# Altium footprint library SMD Active.PcbLib: 72 footprints (part 5 of 8)
Each footprint in its own frame and in the unit in brackets; x right, y up, seen from the top. Pads: shape width x height; smd on the part's side, far side on the other; paste and mask are expansions set on the pad; w line width, h text height; cw(c..) or ccw(c..) is an arc to the next point about the centre after c.
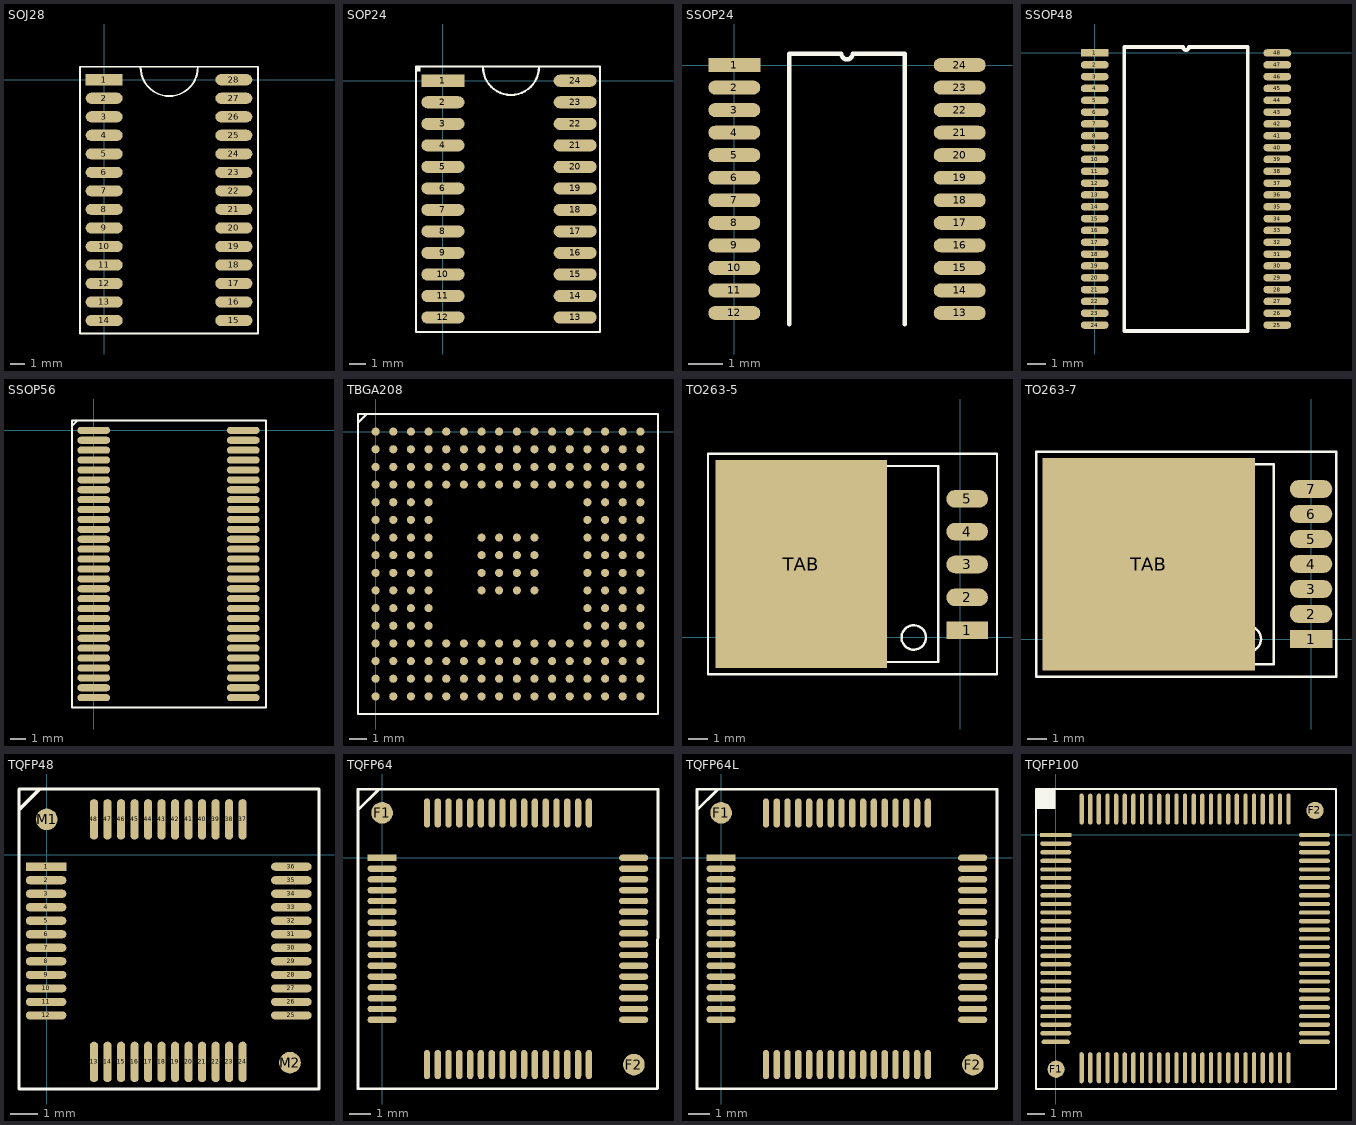
[diagram p4: the footprints below, top view; thin cyan lines are the x and y axes]

## SOJ28 [mil]
pads (28):
  rect 100x30 smd: 1(0,0)
  oval 100x30 smd: 2(0,-50) 3(0,-100) 4(0,-150) 5(0,-200) 6(0,-250) 7(0,-300) 8(0,-350) 9(0,-400) 10(0,-450) 11(0,-500) 12(0,-550) 13(0,-600) 14(0,-650) 15(350,-650) 16(350,-600) 17(350,-550) 18(350,-500) 19(350,-450) 20(350,-400) 21(350,-350) 22(350,-300) 23(350,-250) 24(350,-200) 25(350,-150) 26(350,-100) 27(350,-50) 28(350,0)
Top Overlay:
  lines w5: 98.48,33 ccw(c175.5,33) 252.51,33 ; 160,35 415,35 415,-685 -65,-685 -65,35 162.5,35

## SOP24 [mil]
pads (24):
  rect 100x28 smd: 1(0,0)
  oval 100x28 smd: 2(0,-50) 3(0,-100) 4(0,-150) 5(0,-200) 6(0,-250) 7(0,-300) 8(0,-350) 9(0,-400) 10(0,-450) 11(0,-500) 12(0,-550) 13(307,-550) 14(307,-500) 15(307,-450) 16(307,-400) 17(307,-350) 18(307,-300) 19(307,-250) 20(307,-200) 21(307,-150) 22(307,-100) 23(307,-50) 24(307,0)
Top Overlay:
  rectangle: -63,21 -52,33
  lines w5: -63,-20 -63,-4 ; 93,32 ccw(c158,32) 223,32 ; 364,-584 -63,-584 -63,33 365,33 ; 365.19,-584 365.19,33

## SSOP24 [mm]
pads (24):
  rect 1.5x0.4 smd: 1(0,0)
  oval 1.5x0.4 smd: 2(0,-0.65) 3(0,-1.3) 4(0,-1.95) 5(0,-2.6) 6(0,-3.25) 7(0,-3.9) 8(0,-4.55) 9(0,-5.2) 10(0,-5.85) 11(0,-6.5) 12(0,-7.15) 13(6.5,-7.15) 14(6.5,-6.5) 15(6.5,-5.85) 16(6.5,-5.2) 17(6.5,-4.55) 18(6.5,-3.9) 19(6.5,-3.25) 20(6.5,-2.6) 21(6.5,-1.95) 22(6.5,-1.3) 23(6.5,-0.65) 24(6.5,0)
Top Overlay:
  lines w0.127: 1.585,-7.475 1.585,0.325 3.087,0.325 ccw(c3.25,0.325) 3.412,0.325 4.915,0.325 4.915,-7.475
3D body: height 1.52, standoff 0.25, extent 1.067,-7.544 5.385,0.356
3D body: height 0.51, standoff 0, extent -0.076,-0.191 0.61,0.191
3D body: height 0.89, standoff 0.38, extent 0.267,-0.191 1.092,0.191
3D body: height 0.89, standoff 0.38, extent 0.267,-1.486 1.092,-1.105
3D body: height 0.51, standoff 0, extent -0.076,-1.486 0.61,-1.105
3D body: height 0.89, standoff 0.38, extent 5.359,-1.46 6.185,-1.079
3D body: height 0.51, standoff 0, extent 5.842,-1.46 6.528,-1.079
3D body: height 0.89, standoff 0.38, extent 5.359,-0.165 6.185,0.216
3D body: height 0.51, standoff 0, extent 5.842,-0.165 6.528,0.216
3D body: height 1.55, standoff 1.52, extent 1.346,-0.405 1.852,0.102
3D body: height 1.55, standoff 1.52, extent 2.159,-0.864 4.293,0
3D body: height 0.51, standoff 0, extent 5.842,-2.781 6.528,-2.4
3D body: height 0.89, standoff 0.38, extent 5.359,-2.781 6.185,-2.4
3D body: height 0.51, standoff 0, extent -0.076,-2.807 0.61,-2.426
3D body: height 0.89, standoff 0.38, extent 0.267,-2.807 1.092,-2.426
3D body: height 0.51, standoff 0, extent 5.842,-4.051 6.528,-3.67
3D body: height 0.89, standoff 0.38, extent 5.359,-4.051 6.185,-3.67
3D body: height 0.51, standoff 0, extent -0.076,-4.077 0.61,-3.696
3D body: height 0.89, standoff 0.38, extent 0.267,-4.077 1.092,-3.696
3D body: height 0.51, standoff 0, extent 5.842,-5.372 6.528,-4.991
3D body: height 0.89, standoff 0.38, extent 5.359,-5.372 6.185,-4.991
3D body: height 0.51, standoff 0, extent -0.076,-5.397 0.61,-5.016
3D body: height 0.89, standoff 0.38, extent 0.267,-5.397 1.092,-5.016
3D body: height 0.51, standoff 0, extent 5.842,-6.667 6.528,-6.286
3D body: height 0.89, standoff 0.38, extent 5.359,-6.667 6.185,-6.286
3D body: height 0.51, standoff 0, extent -0.076,-6.693 0.61,-6.312
3D body: height 0.89, standoff 0.38, extent 0.267,-6.693 1.092,-6.312
3D body: height 0.51, standoff 0, extent 5.842,-7.302 6.528,-6.921
3D body: height 0.89, standoff 0.38, extent 5.359,-7.302 6.185,-6.921
3D body: height 0.51, standoff 0, extent -0.076,-7.328 0.61,-6.947
3D body: height 0.89, standoff 0.38, extent 0.267,-7.328 1.092,-6.947
3D body: height 0.51, standoff 0, extent 5.842,-6.007 6.528,-5.626
3D body: height 0.89, standoff 0.38, extent 5.359,-6.007 6.185,-5.626
3D body: height 0.51, standoff 0, extent -0.076,-6.032 0.61,-5.651
3D body: height 0.89, standoff 0.38, extent 0.267,-6.032 1.092,-5.651
3D body: height 0.51, standoff 0, extent 5.867,-4.712 6.553,-4.331
3D body: height 0.89, standoff 0.38, extent 5.385,-4.712 6.21,-4.331
3D body: height 0.51, standoff 0, extent -0.051,-4.737 0.635,-4.356
3D body: height 0.89, standoff 0.38, extent 0.292,-4.737 1.118,-4.356
3D body: height 0.51, standoff 0, extent 5.867,-3.416 6.553,-3.035
3D body: height 0.89, standoff 0.38, extent 5.385,-3.416 6.21,-3.035
3D body: height 0.51, standoff 0, extent -0.051,-3.442 0.635,-3.061
3D body: height 0.89, standoff 0.38, extent 0.292,-3.442 1.118,-3.061
3D body: height 0.51, standoff 0, extent 5.817,-2.121 6.502,-1.74
3D body: height 0.89, standoff 0.38, extent 5.334,-2.121 6.159,-1.74
3D body: height 0.51, standoff 0, extent -0.102,-2.146 0.584,-1.765
3D body: height 0.89, standoff 0.38, extent 0.241,-2.146 1.067,-1.765
3D body: height 0.51, standoff 0, extent 5.817,-0.851 6.502,-0.47
3D body: height 0.89, standoff 0.38, extent 5.334,-0.851 6.159,-0.47
3D body: height 0.51, standoff 0, extent -0.102,-0.876 0.584,-0.495
3D body: height 0.89, standoff 0.38, extent 0.241,-0.876 1.067,-0.495

## SSOP48 [mm]
pads (48):
  rect 1.5x0.4 smd: 1(0,0)
  oval 1.5x0.4 smd: 2(0,-0.635) 3(0,-1.27) 4(0,-1.905) 5(0,-2.54) 6(0,-3.175) 7(0,-3.81) 8(0,-4.445) 9(0,-5.08) 10(0,-5.715) 11(0,-6.35) 12(0,-6.985) 13(0,-7.62) 14(0,-8.255) 15(0,-8.89) 16(0,-9.525) 17(0,-10.16) 18(0,-10.795) 19(0,-11.43) 20(0,-12.065) 21(0,-12.7) 22(0,-13.335) 23(0,-13.97) 24(0,-14.605) 25(9.8,-14.605) 26(9.8,-13.97) 27(9.8,-13.335) 28(9.8,-12.7) 29(9.8,-12.065) 30(9.8,-11.43) 31(9.8,-10.795) 32(9.8,-10.16) 33(9.8,-9.525) 34(9.8,-8.89) 35(9.8,-8.255) 36(9.8,-7.62) 37(9.8,-6.985) 38(9.8,-6.35) 39(9.8,-5.715) 40(9.8,-5.08) 41(9.8,-4.445) 42(9.8,-3.81) 43(9.8,-3.175) 44(9.8,-2.54) 45(9.8,-1.905) 46(9.8,-1.27) 47(9.8,-0.635) 48(9.8,0)
Top Overlay:
  lines w0.2: 1.585,-14.922 8.215,-14.922 8.215,0.318 5.059,0.318 cw(c4.9,0.318) 4.741,0.318 1.585,0.318 1.585,-14.922

## SSOP56 [mil]
pads (56):
  oval 82.5x18 smd: 1(0,0) 2(0,-25) 3(0,-50) 4(0,-75) 5(0,-100) 6(0,-125) 7(0,-150) 8(0,-175) 9(0,-200) 10(0,-225) 11(0,-250) 12(0,-275) 13(0,-300) 14(0,-325) 15(0,-350) 16(0,-375) 17(0,-400) 18(0,-425) 19(0,-450) 20(0,-475) 21(0,-500) 22(0,-525) 23(0,-550) 24(0,-575) 25(0,-600) 26(0,-625) 27(0,-650) 28(0,-675) 29(377.4,-675) 30(377.4,-650) 31(377.4,-625) 32(377.4,-600) 33(377.4,-575) 34(377.4,-550) 35(377.4,-525) 36(377.4,-500) 37(377.4,-475) 38(377.4,-450) 39(377.4,-425) 40(377.4,-400) 41(377.4,-375) 42(377.4,-350) 43(377.4,-325) 44(377.4,-300) 45(377.4,-275) 46(377.4,-250) 47(377.4,-225) 48(377.4,-200) 49(377.4,-175) 50(377.4,-150) 51(377.4,-125) 52(377.4,-100) 53(377.4,-75) 54(377.4,-50) 55(377.4,-25) 56(377.4,0)
Top Overlay:
  lines w5: -55,10 -40,25 -55,25 ; -55,25 -55,-700 435,-700 435,25 -55,25

## TBGA208 [mm]
pads (208):
  round 0.46 smd: A1(0,0) A2(1,0) A3(2,0) A4(3,0) A5(4,0) A6(5,0) A7(6,0) A8(7,0) A9(8,0) A10(9,0) A11(10,0) A12(11,0) A13(12,0) A14(13,0) A15(14,0) A16(15,0) B1(0,-1) B2(1,-1) B3(2,-1) B4(3,-1) B5(4,-1) B6(5,-1) B7(6,-1) B8(7,-1) B9(8,-1) B10(9,-1) B11(10,-1) B12(11,-1) B13(12,-1) B14(13,-1) B15(14,-1) B16(15,-1) C1(0,-2) C2(1,-2) C3(2,-2) C4(3,-2) C5(4,-2) C6(5,-2) C7(6,-2) C8(7,-2) C9(8,-2) C10(9,-2) C11(10,-2) C12(11,-2) C13(12,-2) C14(13,-2) C15(14,-2) C16(15,-2) D1(0,-3) D2(1,-3) D3(2,-3) D4(3,-3) D5(4,-3) D6(5,-3) D7(6,-3) D8(7,-3) D9(8,-3) D10(9,-3) D11(10,-3) D12(11,-3) D13(12,-3) D14(13,-3) D15(14,-3) D16(15,-3) E1(0,-4) E2(1,-4) E3(2,-4) E4(3,-4) E13(12,-4) E14(13,-4) E15(14,-4) E16(15,-4) F1(0,-5) F2(1,-5) F3(2,-5) F4(3,-5) F13(12,-5) F14(13,-5) F15(14,-5) F16(15,-5) G1(0,-6) G2(1,-6) G3(2,-6) G4(3,-6) G7(6,-6) G8(7,-6) G9(8,-6) G10(9,-6) G13(12,-6) G14(13,-6) G15(14,-6) G16(15,-6) H1(0,-7) H2(1,-7) H3(2,-7) H4(3,-7) H7(6,-7) H8(7,-7) H9(8,-7) H10(9,-7) H13(12,-7) H14(13,-7) H15(14,-7) H16(15,-7) J1(0,-8) J2(1,-8) J3(2,-8) J4(3,-8) J7(6,-8) J8(7,-8) J9(8,-8) J10(9,-8) J13(12,-8) J14(13,-8) J15(14,-8) J16(15,-8) K1(0,-9) K2(1,-9) K3(2,-9) K4(3,-9) K7(6,-9) K8(7,-9) K9(8,-9) K10(9,-9) K13(12,-9) K14(13,-9) K15(14,-9) K16(15,-9) L1(0,-10) L2(1,-10) L3(2,-10) L4(3,-10) L13(12,-10) L14(13,-10) L15(14,-10) L16(15,-10) M1(0,-11) M2(1,-11) M3(2,-11) M4(3,-11) M13(12,-11) M14(13,-11) M15(14,-11) M16(15,-11) N1(0,-12) N2(1,-12) N3(2,-12) N4(3,-12) N5(4,-12) N6(5,-12) N7(6,-12) N8(7,-12) N9(8,-12) N10(9,-12) N11(10,-12) N12(11,-12) N13(12,-12) N14(13,-12) N15(14,-12) N16(15,-12) P1(0,-13) P2(1,-13) P3(2,-13) P4(3,-13) P5(4,-13) P6(5,-13) P7(6,-13) P8(7,-13) P9(8,-13) P10(9,-13) P11(10,-13) P12(11,-13) P13(12,-13) P14(13,-13) P15(14,-13) P16(15,-13) R1(0,-14) R2(1,-14) R3(2,-14) R4(3,-14) R5(4,-14) R6(5,-14) R7(6,-14) R8(7,-14) R9(8,-14) R10(9,-14) R11(10,-14) R12(11,-14) R13(12,-14) R14(13,-14) R15(14,-14) R16(15,-14) T1(0,-15) T2(1,-15) T3(2,-15) T4(3,-15) T5(4,-15) T6(5,-15) T7(6,-15) T8(7,-15) T9(8,-15) T10(9,-15) T11(10,-15) T12(11,-15) T13(12,-15) T14(13,-15) T15(14,-15) T16(15,-15)
Top Overlay:
  lines w0.127: -1,0.5 -1,1 -0.5,1 ; -1,0.5 -0.5,1 ; -1,0.5 -1,-16 16,-16 16,1 -0.5,1

## TO263-5 [mil]
pads (6):
  rect 85x36 smd: 1(14,15)
  oval 85x36 smd: 2(14,82) 3(14,149) 4(14,216) 5(14,283)
  rect 350x425 smd: TAB(-325,150)
Top Overlay:
  circle w5: c-95,0 r25
  lines w4: -45,-50 -451.54,-50 -470,10 -470,285 -445,350 -420,350 -45,350
  lines w5: -420,-50 -420,350 ; -395,-50 -395,350 ; -45,-50 -45,350 ; -515,-75 75,-75 75,375 -515,375 -515,-75
3D body: height 120, standoff 50, extent -393,-50 -82,350
3D body: height 101, standoff 0, extent -287,-49 -200,-17
3D body: height 100, standoff 0, extent -393,-50 -82,350
3D body: height 50, standoff 0, extent -472,-52 -393,350
3D body: height 60, standoff 40, extent -85,270 -5,295
3D body: height 60, standoff 0, extent -17,270 -5,295
3D body: height 20, standoff 0, extent -17,270 31,295
3D body: height 20, standoff 0, extent -17,205 31,230
3D body: height 60, standoff 0, extent -17,205 -5,230
3D body: height 60, standoff 40, extent -85,205 -5,230
3D body: height 20, standoff 0, extent -17,135 31,160
3D body: height 60, standoff 0, extent -17,135 -5,160
3D body: height 60, standoff 40, extent -85,135 -5,160
3D body: height 20, standoff 0, extent -17,70 31,95
3D body: height 60, standoff 0, extent -17,70 -5,95
3D body: height 60, standoff 40, extent -85,70 -5,95
3D body: height 20, standoff 0, extent -17,5 31,30
3D body: height 60, standoff 0, extent -17,5 -5,30
3D body: height 60, standoff 40, extent -85,5 -5,30

## TO263-7 [mil]
pads (8):
  rect 85x36 smd: 1(0,0)
  oval 85x36 smd: 2(0,50) 3(0,100) 4(0,150) 5(0,200) 6(0,250) 7(0,300)
  rect 425x425 smd: TAB(-325,150)
Top Overlay:
  circle w5: c-125,0 r25
  lines w5: -450,-50 -450,350 ; -425,-50 -425,350 ; -550,-75 -550,375 50,375 50,-75 -550,-75 ; -525,-25 -525,325 -500,350 -75,350 -75,-50 -500,-50 -525,-25
3D body: height 50, standoff 0, extent -502,-57 -423,345
3D body: height 100, standoff 0, extent -423,-55 -112,345
3D body: height 101, standoff 0, extent -317,-54 -230,-22
3D body: height 120, standoff 50, extent -423,-55 -112,345

## TQFP48 [mm]
pads (50):
  rect 1.5x0.3 smd: 1(-0.025,-0.45)
  oval 1.5x0.3 smd: 2(-0.025,-0.95) 3(-0.025,-1.45) 4(-0.025,-1.95) 5(-0.025,-2.45) 6(-0.025,-2.95) 7(-0.025,-3.45) 8(-0.025,-3.95) 9(-0.025,-4.45) 10(-0.025,-4.95) 11(-0.025,-5.45) 12(-0.025,-5.95) 25(9.05,-5.95) 26(9.05,-5.45) 27(9.05,-4.95) 28(9.05,-4.45) 29(9.05,-3.95) 30(9.05,-3.45) 31(9.05,-2.95) 32(9.05,-2.45) 33(9.05,-1.95) 34(9.05,-1.45) 35(9.05,-0.95) 36(9.05,-0.45)
  oval 0.3x1.5 smd: 13(1.75,-7.675) 14(2.25,-7.675) 15(2.75,-7.675) 16(3.25,-7.675) 17(3.75,-7.675) 18(4.25,-7.675) 19(4.75,-7.675) 20(5.25,-7.675) 21(5.75,-7.675) 22(6.25,-7.675) 23(6.75,-7.675) 24(7.25,-7.675) 37(7.25,1.3) 38(6.75,1.3) 39(6.25,1.3) 40(5.75,1.3) 41(5.25,1.3) 42(4.75,1.3) 43(4.25,1.3) 44(3.75,1.3) 45(3.25,1.3) 46(2.75,1.3) 47(2.25,1.3) 48(1.75,1.3)
  round 0.8 smd: M1(0,1.3) M2(9,-7.7)
Top Overlay:
  lines w0.127: -1.025,1.525 -1.025,1.65 -0.25,2.425 ; -1.025,-8.675 10.075,-8.675 10.075,2.325 10.075,2.425 -1.025,2.425 -1.025,-8.675
3D body: height 0.76, standoff 0.38, extent 0.089,-6.071 0.914,-5.829
3D body: height 0.51, standoff 0, extent -0.254,-6.071 0.432,-5.829
3D body: height 0.97, standoff 0.13, extent 0.902,-6.744 8.141,0.419
3D body: height 0.51, standoff 0, extent -0.254,-5.556 0.432,-5.315
3D body: height 0.76, standoff 0.38, extent 0.089,-5.556 0.914,-5.315
3D body: height 0.51, standoff 0, extent -0.254,-5.074 0.432,-4.832
3D body: height 0.76, standoff 0.38, extent 0.089,-5.074 0.914,-4.832
3D body: height 0.51, standoff 0, extent -0.254,-4.566 0.432,-4.324
3D body: height 0.76, standoff 0.38, extent 0.089,-4.566 0.914,-4.324
3D body: height 0.51, standoff 0, extent -0.254,-4.083 0.432,-3.842
3D body: height 0.76, standoff 0.38, extent 0.089,-4.083 0.914,-3.842
3D body: height 0.51, standoff 0, extent -0.254,-3.575 0.432,-3.334
3D body: height 0.76, standoff 0.38, extent 0.089,-3.575 0.914,-3.334
3D body: height 0.51, standoff 0, extent -0.254,-3.067 0.432,-2.826
3D body: height 0.76, standoff 0.38, extent 0.089,-3.067 0.914,-2.826
3D body: height 0.51, standoff 0, extent -0.254,-2.584 0.432,-2.343
3D body: height 0.76, standoff 0.38, extent 0.089,-2.584 0.914,-2.343
3D body: height 0.51, standoff 0, extent -0.254,-2.076 0.432,-1.835
3D body: height 0.76, standoff 0.38, extent 0.089,-2.076 0.914,-1.835
3D body: height 0.51, standoff 0, extent -0.254,-1.568 0.432,-1.327
3D body: height 0.76, standoff 0.38, extent 0.089,-1.568 0.914,-1.327
3D body: height 0.51, standoff 0, extent -0.254,-1.086 0.432,-0.845
3D body: height 0.76, standoff 0.38, extent 0.089,-1.086 0.914,-0.845
3D body: height 0.51, standoff 0, extent -0.254,-0.578 0.432,-0.337
3D body: height 0.76, standoff 0.38, extent 0.089,-0.578 0.914,-0.337
3D body: height 0.76, standoff 0.38, extent 1.632,-7.556 1.873,-6.731
3D body: height 0.51, standoff 0, extent 1.632,-7.899 1.873,-7.214
3D body: height 0.76, standoff 0.38, extent 2.14,-7.556 2.381,-6.731
3D body: height 0.51, standoff 0, extent 2.14,-7.899 2.381,-7.214
3D body: height 0.76, standoff 0.38, extent 2.623,-7.556 2.864,-6.731
3D body: height 0.51, standoff 0, extent 2.623,-7.899 2.864,-7.214
3D body: height 0.76, standoff 0.38, extent 3.131,-7.556 3.372,-6.731
3D body: height 0.51, standoff 0, extent 3.131,-7.899 3.372,-7.214
3D body: height 0.76, standoff 0.38, extent 3.639,-7.556 3.88,-6.731
3D body: height 0.51, standoff 0, extent 3.639,-7.899 3.88,-7.214
3D body: height 0.76, standoff 0.38, extent 4.121,-7.556 4.362,-6.731
3D body: height 0.51, standoff 0, extent 4.121,-7.899 4.362,-7.214
3D body: height 0.76, standoff 0.38, extent 4.629,-7.556 4.87,-6.731
3D body: height 0.51, standoff 0, extent 4.629,-7.899 4.87,-7.214
3D body: height 0.76, standoff 0.38, extent 5.137,-7.556 5.378,-6.731
3D body: height 0.51, standoff 0, extent 5.137,-7.899 5.378,-7.214
3D body: height 0.76, standoff 0.38, extent 5.62,-7.556 5.861,-6.731
3D body: height 0.51, standoff 0, extent 5.62,-7.899 5.861,-7.214
3D body: height 0.76, standoff 0.38, extent 6.128,-7.556 6.369,-6.731
3D body: height 0.51, standoff 0, extent 6.128,-7.899 6.369,-7.214
3D body: height 0.76, standoff 0.38, extent 6.61,-7.556 6.852,-6.731
3D body: height 0.51, standoff 0, extent 6.61,-7.899 6.852,-7.214
3D body: height 0.51, standoff 0, extent 7.125,-7.899 7.366,-7.214
3D body: height 0.76, standoff 0.38, extent 7.125,-7.556 7.366,-6.731
3D body: height 0.76, standoff 0.38, extent 8.103,-6.064 8.928,-5.823
3D body: height 0.51, standoff 0, extent 8.585,-6.064 9.271,-5.823
3D body: height 0.76, standoff 0.38, extent 8.103,-5.556 8.928,-5.315
3D body: height 0.51, standoff 0, extent 8.585,-5.556 9.271,-5.315
3D body: height 0.76, standoff 0.38, extent 8.103,-5.074 8.928,-4.832
3D body: height 0.51, standoff 0, extent 8.585,-5.074 9.271,-4.832
3D body: height 0.76, standoff 0.38, extent 8.103,-4.566 8.928,-4.324
3D body: height 0.51, standoff 0, extent 8.585,-4.566 9.271,-4.324
3D body: height 0.76, standoff 0.38, extent 8.103,-4.058 8.928,-3.816
3D body: height 0.51, standoff 0, extent 8.585,-4.058 9.271,-3.816
3D body: height 0.76, standoff 0.38, extent 8.103,-3.575 8.928,-3.334
3D body: height 0.51, standoff 0, extent 8.585,-3.575 9.271,-3.334
3D body: height 0.76, standoff 0.38, extent 8.103,-3.067 8.928,-2.826
3D body: height 0.51, standoff 0, extent 8.585,-3.067 9.271,-2.826
3D body: height 0.76, standoff 0.38, extent 8.103,-2.559 8.928,-2.318
3D body: height 0.51, standoff 0, extent 8.585,-2.559 9.271,-2.318
3D body: height 0.76, standoff 0.38, extent 8.103,-2.076 8.928,-1.835
3D body: height 0.51, standoff 0, extent 8.585,-2.076 9.271,-1.835
3D body: height 0.76, standoff 0.38, extent 8.103,-1.568 8.928,-1.327
3D body: height 0.51, standoff 0, extent 8.585,-1.568 9.271,-1.327
3D body: height 0.76, standoff 0.38, extent 8.103,-1.086 8.928,-0.845
3D body: height 0.51, standoff 0, extent 8.585,-1.086 9.271,-0.845
3D body: height 0.51, standoff 0, extent 8.585,-0.572 9.271,-0.33
3D body: height 0.76, standoff 0.38, extent 8.103,-0.572 8.928,-0.33
3D body: height 0.76, standoff 0.38, extent 7.118,0.381 7.36,1.206
3D body: height 0.51, standoff 0, extent 7.118,0.864 7.36,1.549
3D body: height 0.76, standoff 0.38, extent 6.61,0.381 6.852,1.206
3D body: height 0.51, standoff 0, extent 6.61,0.864 6.852,1.549
3D body: height 0.76, standoff 0.38, extent 6.128,0.381 6.369,1.206
3D body: height 0.51, standoff 0, extent 6.128,0.864 6.369,1.549
3D body: height 0.76, standoff 0.38, extent 5.62,0.381 5.861,1.206
3D body: height 0.51, standoff 0, extent 5.62,0.864 5.861,1.549
3D body: height 0.76, standoff 0.38, extent 5.112,0.381 5.353,1.206
3D body: height 0.51, standoff 0, extent 5.112,0.864 5.353,1.549
3D body: height 0.76, standoff 0.38, extent 4.629,0.381 4.87,1.206
3D body: height 0.51, standoff 0, extent 4.629,0.864 4.87,1.549
3D body: height 0.76, standoff 0.38, extent 4.121,0.381 4.362,1.206
3D body: height 0.51, standoff 0, extent 4.121,0.864 4.362,1.549
3D body: height 0.76, standoff 0.38, extent 3.613,0.381 3.854,1.206
3D body: height 0.51, standoff 0, extent 3.613,0.864 3.854,1.549
3D body: height 0.76, standoff 0.38, extent 3.131,0.381 3.372,1.206
3D body: height 0.51, standoff 0, extent 3.131,0.864 3.372,1.549
3D body: height 0.76, standoff 0.38, extent 2.623,0.381 2.864,1.206
3D body: height 0.51, standoff 0, extent 2.623,0.864 2.864,1.549
3D body: height 0.76, standoff 0.38, extent 2.14,0.381 2.381,1.206
3D body: height 0.51, standoff 0, extent 2.14,0.864 2.381,1.549
3D body: height 0.51, standoff 0, extent 1.626,0.864 1.867,1.549
3D body: height 0.76, standoff 0.38, extent 1.626,0.381 1.867,1.206
3D body: height 0.99, standoff 0.25, extent 1.295,-0.483 1.801,0.024

## TQFP64 [mm]
pads (66):
  rect 1.35x0.295 smd: 1(0,0)
  oval 1.35x0.295 smd: 2(0,-0.5) 3(0,-1) 4(0,-1.5) 5(0,-2) 6(0,-2.5) 7(0,-3) 8(0,-3.5) 9(0,-4) 10(0,-4.5) 11(0,-5) 12(0,-5.5) 13(0,-6) 14(0,-6.5) 15(0,-7) 16(0,-7.5) 33(11.65,-7.5) 34(11.65,-7) 35(11.65,-6.5) 36(11.65,-6) 37(11.65,-5.5) 38(11.65,-5) 39(11.65,-4.5) 40(11.65,-4) 41(11.65,-3.5) 42(11.65,-3) 43(11.65,-2.5) 44(11.65,-2) 45(11.65,-1.5) 46(11.65,-1) 47(11.65,-0.5) 48(11.65,0)
  oval 0.295x1.35 smd: 17(2.075,-9.575) 18(2.575,-9.575) 19(3.075,-9.575) 20(3.575,-9.575) 21(4.075,-9.575) 22(4.575,-9.575) 23(5.075,-9.575) 24(5.575,-9.575) 25(6.075,-9.575) 26(6.575,-9.575) 27(7.075,-9.575) 28(7.575,-9.575) 29(8.075,-9.575) 30(8.575,-9.575) 31(9.075,-9.575) 32(9.575,-9.575) 49(9.575,2.075) 50(9.075,2.075) 51(8.575,2.075) 52(8.075,2.075) 53(7.575,2.075) 54(7.075,2.075) 55(6.575,2.075) 56(6.075,2.075) 57(5.575,2.075) 58(5.075,2.075) 59(4.575,2.075) 60(4.075,2.075) 61(3.575,2.075) 62(3.075,2.075) 63(2.575,2.075) 64(2.075,2.075)
  round 1 smd: F1(0,2.083) F2(11.659,-9.576)
Top Overlay:
  lines w0.127: -1.118,2.007 -1.118,2.21 -0.152,3.175 ; -1.118,-10.693 12.757,-10.682 12.776,3.175 -1.067,3.175 -1.118,3.175 -1.118,-10.693
3D body: height 0.99, standoff 0.25, extent 1.449,0.127 1.955,0.634
3D body: height 0.76, standoff 0.38, extent 0.14,-0.121 0.965,0.121
3D body: height 0.51, standoff 0, extent -0.203,-0.121 0.483,0.121
3D body: height 0.76, standoff 0.38, extent 0.14,-0.629 0.965,-0.387
3D body: height 0.51, standoff 0, extent -0.203,-0.629 0.483,-0.387
3D body: height 0.76, standoff 0.38, extent 0.14,-1.111 0.965,-0.87
3D body: height 0.51, standoff 0, extent -0.203,-1.111 0.483,-0.87
3D body: height 0.76, standoff 0.38, extent 0.14,-1.619 0.965,-1.378
3D body: height 0.51, standoff 0, extent -0.203,-1.619 0.483,-1.378
3D body: height 0.76, standoff 0.38, extent 0.14,-2.127 0.965,-1.886
3D body: height 0.51, standoff 0, extent -0.203,-2.127 0.483,-1.886
3D body: height 0.76, standoff 0.38, extent 0.14,-2.61 0.965,-2.369
3D body: height 0.51, standoff 0, extent -0.203,-2.61 0.483,-2.369
3D body: height 0.76, standoff 0.38, extent 0.14,-3.118 0.965,-2.877
3D body: height 0.51, standoff 0, extent -0.203,-3.118 0.483,-2.877
3D body: height 0.76, standoff 0.38, extent 0.14,-3.626 0.965,-3.385
3D body: height 0.51, standoff 0, extent -0.203,-3.626 0.483,-3.385
3D body: height 0.76, standoff 0.38, extent 0.14,-4.108 0.965,-3.867
3D body: height 0.51, standoff 0, extent -0.203,-4.108 0.483,-3.867
3D body: height 0.76, standoff 0.38, extent 0.14,-4.616 0.965,-4.375
3D body: height 0.51, standoff 0, extent -0.203,-4.616 0.483,-4.375
3D body: height 0.76, standoff 0.38, extent 0.14,-5.099 0.965,-4.858
3D body: height 0.51, standoff 0, extent -0.203,-5.099 0.483,-4.858
3D body: height 0.97, standoff 0.13, extent 0.94,-8.661 10.693,1.143
3D body: height 0.51, standoff 0, extent -0.203,-5.613 0.483,-5.372
3D body: height 0.76, standoff 0.38, extent 0.14,-5.613 0.965,-5.372
3D body: height 0.76, standoff 0.38, extent 0.14,-7.62 0.965,-7.379
3D body: height 0.51, standoff 0, extent -0.203,-7.62 0.483,-7.379
3D body: height 0.51, standoff 0, extent -0.203,-7.106 0.483,-6.864
3D body: height 0.76, standoff 0.38, extent 0.14,-7.106 0.965,-6.864
3D body: height 0.51, standoff 0, extent -0.203,-6.623 0.483,-6.382
3D body: height 0.76, standoff 0.38, extent 0.14,-6.623 0.965,-6.382
3D body: height 0.51, standoff 0, extent -0.203,-6.115 0.483,-5.874
3D body: height 0.76, standoff 0.38, extent 0.14,-6.115 0.965,-5.874
3D body: height 0.76, standoff 0.38, extent 7.931,-9.461 8.172,-8.636
3D body: height 0.51, standoff 0, extent 7.931,-9.804 8.172,-9.119
3D body: height 0.76, standoff 0.38, extent 8.439,-9.461 8.68,-8.636
3D body: height 0.51, standoff 0, extent 8.439,-9.804 8.68,-9.119
3D body: height 0.76, standoff 0.38, extent 8.922,-9.461 9.163,-8.636
3D body: height 0.51, standoff 0, extent 8.922,-9.804 9.163,-9.119
3D body: height 0.51, standoff 0, extent 9.436,-9.804 9.677,-9.119
3D body: height 0.76, standoff 0.38, extent 9.436,-9.461 9.677,-8.636
3D body: height 0.76, standoff 0.38, extent 7.429,-9.461 7.671,-8.636
3D body: height 0.51, standoff 0, extent 7.429,-9.804 7.671,-9.119
3D body: height 0.51, standoff 0, extent 6.915,-9.804 7.156,-9.119
3D body: height 0.76, standoff 0.38, extent 6.915,-9.461 7.156,-8.636
3D body: height 0.51, standoff 0, extent 6.433,-9.804 6.674,-9.119
3D body: height 0.76, standoff 0.38, extent 6.433,-9.461 6.674,-8.636
3D body: height 0.51, standoff 0, extent 5.925,-9.804 6.166,-9.119
3D body: height 0.76, standoff 0.38, extent 5.925,-9.461 6.166,-8.636
3D body: height 0.51, standoff 0, extent 5.442,-9.804 5.683,-9.119
3D body: height 0.76, standoff 0.38, extent 5.442,-9.461 5.683,-8.636
3D body: height 0.51, standoff 0, extent 4.934,-9.804 5.175,-9.119
3D body: height 0.76, standoff 0.38, extent 4.934,-9.461 5.175,-8.636
3D body: height 0.51, standoff 0, extent 4.426,-9.804 4.667,-9.119
3D body: height 0.76, standoff 0.38, extent 4.426,-9.462 4.667,-8.636
3D body: height 0.51, standoff 0, extent 3.943,-9.804 4.185,-9.119
3D body: height 0.76, standoff 0.38, extent 3.943,-9.462 4.185,-8.636
3D body: height 0.51, standoff 0, extent 3.435,-9.804 3.677,-9.119
3D body: height 0.76, standoff 0.38, extent 3.435,-9.461 3.677,-8.636
3D body: height 0.51, standoff 0, extent 2.927,-9.804 3.169,-9.119
3D body: height 0.76, standoff 0.38, extent 2.927,-9.461 3.169,-8.636
3D body: height 0.51, standoff 0, extent 2.445,-9.804 2.686,-9.119
3D body: height 0.76, standoff 0.38, extent 2.445,-9.461 2.686,-8.636
3D body: height 0.51, standoff 0, extent 1.937,-9.804 2.178,-9.119
3D body: height 0.76, standoff 0.38, extent 1.937,-9.461 2.178,-8.636
3D body: height 0.76, standoff 0.38, extent 10.668,-1.619 11.493,-1.378
3D body: height 0.51, standoff 0, extent 11.151,-1.619 11.836,-1.378
3D body: height 0.76, standoff 0.38, extent 10.668,-1.111 11.493,-0.87
3D body: height 0.51, standoff 0, extent 11.151,-1.111 11.836,-0.87
3D body: height 0.76, standoff 0.38, extent 10.668,-0.629 11.493,-0.387
3D body: height 0.51, standoff 0, extent 11.151,-0.629 11.836,-0.387
3D body: height 0.51, standoff 0, extent 11.151,-0.114 11.836,0.127
3D body: height 0.76, standoff 0.38, extent 10.668,-0.114 11.493,0.127
3D body: height 0.76, standoff 0.38, extent 10.668,-2.121 11.493,-1.88
3D body: height 0.51, standoff 0, extent 11.151,-2.121 11.836,-1.88
3D body: height 0.51, standoff 0, extent 11.151,-2.635 11.836,-2.394
3D body: height 0.76, standoff 0.38, extent 10.668,-2.635 11.493,-2.394
3D body: height 0.51, standoff 0, extent 11.151,-3.118 11.836,-2.877
3D body: height 0.76, standoff 0.38, extent 10.668,-3.118 11.493,-2.877
3D body: height 0.51, standoff 0, extent 11.151,-3.626 11.836,-3.385
3D body: height 0.76, standoff 0.38, extent 10.668,-3.626 11.493,-3.385
3D body: height 0.51, standoff 0, extent 11.151,-4.108 11.836,-3.867
3D body: height 0.76, standoff 0.38, extent 10.668,-4.108 11.493,-3.867
3D body: height 0.51, standoff 0, extent 11.151,-4.616 11.836,-4.375
3D body: height 0.76, standoff 0.38, extent 10.668,-4.616 11.493,-4.375
3D body: height 0.51, standoff 0, extent 11.151,-5.124 11.836,-4.883
3D body: height 0.76, standoff 0.38, extent 10.668,-5.124 11.494,-4.883
3D body: height 0.51, standoff 0, extent 11.151,-5.607 11.836,-5.366
3D body: height 0.76, standoff 0.38, extent 10.668,-5.607 11.494,-5.366
3D body: height 0.51, standoff 0, extent 11.151,-6.115 11.836,-5.874
3D body: height 0.76, standoff 0.38, extent 10.668,-6.115 11.493,-5.874
3D body: height 0.51, standoff 0, extent 11.151,-6.623 11.836,-6.382
3D body: height 0.76, standoff 0.38, extent 10.668,-6.623 11.493,-6.382
3D body: height 0.51, standoff 0, extent 11.151,-7.106 11.836,-6.864
3D body: height 0.76, standoff 0.38, extent 10.668,-7.106 11.493,-6.864
3D body: height 0.51, standoff 0, extent 11.151,-7.614 11.836,-7.372
3D body: height 0.76, standoff 0.38, extent 10.668,-7.614 11.493,-7.372
3D body: height 0.76, standoff 0.38, extent 3.461,1.118 3.702,1.943
3D body: height 0.51, standoff 0, extent 3.461,1.6 3.702,2.286
3D body: height 0.76, standoff 0.38, extent 2.953,1.118 3.194,1.943
3D body: height 0.51, standoff 0, extent 2.953,1.6 3.194,2.286
3D body: height 0.76, standoff 0.38, extent 2.47,1.118 2.711,1.943
3D body: height 0.51, standoff 0, extent 2.47,1.6 2.711,2.286
3D body: height 0.51, standoff 0, extent 1.956,1.6 2.197,2.286
3D body: height 0.76, standoff 0.38, extent 1.956,1.118 2.197,1.943
3D body: height 0.76, standoff 0.38, extent 3.962,1.118 4.204,1.943
3D body: height 0.51, standoff 0, extent 3.962,1.6 4.204,2.286
3D body: height 0.51, standoff 0, extent 4.477,1.6 4.718,2.286
3D body: height 0.76, standoff 0.38, extent 4.477,1.118 4.718,1.943
3D body: height 0.51, standoff 0, extent 4.959,1.6 5.201,2.286
3D body: height 0.76, standoff 0.38, extent 4.959,1.118 5.201,1.943
3D body: height 0.51, standoff 0, extent 5.467,1.6 5.709,2.286
3D body: height 0.76, standoff 0.38, extent 5.467,1.118 5.709,1.943
3D body: height 0.51, standoff 0, extent 5.95,1.6 6.191,2.286
3D body: height 0.76, standoff 0.38, extent 5.95,1.118 6.191,1.943
3D body: height 0.51, standoff 0, extent 6.458,1.6 6.699,2.286
3D body: height 0.76, standoff 0.38, extent 6.458,1.118 6.699,1.943
3D body: height 0.51, standoff 0, extent 6.966,1.6 7.207,2.286
3D body: height 0.76, standoff 0.38, extent 6.966,1.118 7.207,1.943
3D body: height 0.51, standoff 0, extent 7.449,1.6 7.69,2.286
3D body: height 0.76, standoff 0.38, extent 7.449,1.118 7.69,1.943
3D body: height 0.51, standoff 0, extent 7.957,1.6 8.198,2.286
3D body: height 0.76, standoff 0.38, extent 7.957,1.118 8.198,1.943
3D body: height 0.51, standoff 0, extent 8.465,1.6 8.706,2.286
3D body: height 0.76, standoff 0.38, extent 8.465,1.118 8.706,1.943
3D body: height 0.51, standoff 0, extent 8.947,1.6 9.188,2.286
3D body: height 0.76, standoff 0.38, extent 8.947,1.118 9.188,1.943
3D body: height 0.51, standoff 0, extent 9.455,1.6 9.696,2.286
3D body: height 0.76, standoff 0.38, extent 9.455,1.118 9.696,1.943

## TQFP64L [mm]
pads (66):
  rect 1.35x0.295 smd: 1(0,0)
  oval 1.35x0.295 smd: 2(0,-0.5) 3(0,-1) 4(0,-1.5) 5(0,-2) 6(0,-2.5) 7(0,-3) 8(0,-3.5) 9(0,-4) 10(0,-4.5) 11(0,-5) 12(0,-5.5) 13(0,-6) 14(0,-6.5) 15(0,-7) 16(0,-7.5) 33(11.65,-7.5) 34(11.65,-7) 35(11.65,-6.5) 36(11.65,-6) 37(11.65,-5.5) 38(11.65,-5) 39(11.65,-4.5) 40(11.65,-4) 41(11.65,-3.5) 42(11.65,-3) 43(11.65,-2.5) 44(11.65,-2) 45(11.65,-1.5) 46(11.65,-1) 47(11.65,-0.5) 48(11.65,0)
  oval 0.295x1.35 smd: 17(2.075,-9.575) 18(2.575,-9.575) 19(3.075,-9.575) 20(3.575,-9.575) 21(4.075,-9.575) 22(4.575,-9.575) 23(5.075,-9.575) 24(5.575,-9.575) 25(6.075,-9.575) 26(6.575,-9.575) 27(7.075,-9.575) 28(7.575,-9.575) 29(8.075,-9.575) 30(8.575,-9.575) 31(9.075,-9.575) 32(9.575,-9.575) 49(9.575,2.075) 50(9.075,2.075) 51(8.575,2.075) 52(8.075,2.075) 53(7.575,2.075) 54(7.075,2.075) 55(6.575,2.075) 56(6.075,2.075) 57(5.575,2.075) 58(5.075,2.075) 59(4.575,2.075) 60(4.075,2.075) 61(3.575,2.075) 62(3.075,2.075) 63(2.575,2.075) 64(2.075,2.075)
  round 1 smd: F1(0,2.083) F2(11.659,-9.576)
Top Overlay:
  lines w0.127: -1.118,2.007 -1.118,2.21 -0.152,3.175 ; -1.118,-10.693 -1.118,3.175 -1.067,3.175 12.776,3.175 12.757,-10.682 -1.118,-10.693

## TQFP100 [mm]
pads (102):
  rect 1.8x0.25 smd: 1(0,0)
  oval 1.8x0.25 smd: 2(0,-0.5) 3(0,-1) 4(0,-1.5) 5(0,-2) 6(0,-2.5) 7(0,-3) 8(0,-3.5) 9(0,-4) 10(0,-4.5) 11(0,-5) 12(0,-5.5) 13(0,-6) 14(0,-6.5) 15(0,-7) 16(0,-7.5) 17(0,-8) 18(0,-8.5) 19(0,-9) 20(0,-9.5) 21(0,-10) 22(0,-10.5) 23(0,-11) 24(0,-11.5) 51(15,-12) 52(15,-11.5) 53(15,-11) 54(15,-10.5) 55(15,-10) 56(15,-9.5) 57(15,-9) 58(15,-8.5) 59(15,-8) 60(15,-7.5) 61(15,-7) 62(15,-6.5) 63(15,-6) 64(15,-5.5) 65(15,-5) 66(15,-4.5) 67(15,-4) 68(15,-3.5) 69(15,-3) 70(15,-2.5) 71(15,-2) 72(15,-1.5) 73(15,-1) 74(15,-0.5) 75(15,0)
  oval 1.651x0.25 smd: 25(0,-12)
  oval 0.25x1.8 smd: 26(1.5,-13.5) 27(2,-13.5) 28(2.5,-13.5) 29(3,-13.5) 30(3.5,-13.5) 31(4,-13.5) 32(4.5,-13.5) 33(5,-13.5) 34(5.5,-13.5) 35(6,-13.5) 36(6.5,-13.5) 37(7,-13.5) 38(7.5,-13.5) 39(8,-13.5) 40(8.5,-13.5) 41(9,-13.5) 42(9.5,-13.5) 43(10,-13.5) 44(10.5,-13.5) 45(11,-13.5) 46(11.5,-13.5) 47(12,-13.5) 48(12.5,-13.5) 49(13,-13.5) 50(13.5,-13.5) 76(13.5,1.5) 77(13,1.5) 78(12.5,1.5) 79(12,1.5) 80(11.5,1.5) 81(11,1.5) 82(10.5,1.5) 83(10,1.5) 84(9.5,1.5) 85(9,1.5) 86(8.5,1.5) 87(8,1.5) 88(7.5,1.5) 89(7,1.5) 90(6.5,1.5) 91(6,1.5) 92(5.5,1.5) 93(5,1.5) 94(4.5,1.5) 95(4,1.5) 96(3.5,1.5) 97(3,1.5) 98(2.5,1.5) 99(2,1.5) 100(1.5,1.5)
  round 1 smd: F1(0.022,-13.586) F2(15.033,1.425)
Top Overlay:
  rectangle: -1.146,1.499 -0.025,2.667
  lines w0.127: -0.511,2.667 -1.146,2.032 -1.146,2.159 -0.638,2.667 -0.765,2.667 -1.146,2.286 -1.146,2.413 -0.892,2.667 -1.146,2.667 ; -1.146,2.667 -1.146,-14.732 16.253,-14.732 16.253,2.667 -1.146,2.667
3D body: height 1.02, standoff 0, extent 0.889,-12.598 14.097,0.61
3D body: height 0.3, standoff 0, extent -0.254,-0.143 0.305,0.162
3D body: height 0.64, standoff 0.3, extent 0.089,-0.143 0.914,0.162
3D body: height 0.64, standoff 0.3, extent 0.089,-0.643 0.914,-0.338
3D body: height 0.3, standoff 0, extent -0.254,-0.643 0.305,-0.338
3D body: height 0.64, standoff 0.3, extent 0.089,-1.143 0.914,-0.838
3D body: height 0.3, standoff 0, extent -0.254,-1.143 0.305,-0.838
3D body: height 0.64, standoff 0.3, extent 0.089,-1.643 0.914,-1.338
3D body: height 0.3, standoff 0, extent -0.254,-1.643 0.305,-1.338
3D body: height 0.64, standoff 0.3, extent 0.089,-2.143 0.914,-1.838
3D body: height 0.3, standoff 0, extent -0.254,-2.143 0.305,-1.838
3D body: height 0.64, standoff 0.3, extent 0.089,-2.643 0.914,-2.338
3D body: height 0.3, standoff 0, extent -0.254,-2.643 0.305,-2.338
3D body: height 0.3, standoff 0, extent -0.254,-5.643 0.305,-5.338
3D body: height 0.64, standoff 0.3, extent 0.089,-5.643 0.914,-5.338
3D body: height 0.3, standoff 0, extent -0.254,-5.143 0.305,-4.838
3D body: height 0.64, standoff 0.3, extent 0.089,-5.143 0.914,-4.838
3D body: height 0.3, standoff 0, extent -0.254,-4.643 0.305,-4.338
3D body: height 0.64, standoff 0.3, extent 0.089,-4.643 0.914,-4.338
3D body: height 0.3, standoff 0, extent -0.254,-4.143 0.305,-3.838
3D body: height 0.64, standoff 0.3, extent 0.089,-4.143 0.914,-3.838
3D body: height 0.3, standoff 0, extent -0.254,-3.643 0.305,-3.338
3D body: height 0.64, standoff 0.3, extent 0.089,-3.643 0.914,-3.338
3D body: height 0.64, standoff 0.3, extent 0.089,-3.143 0.914,-2.838
3D body: height 0.3, standoff 0, extent -0.254,-3.143 0.305,-2.838
3D body: height 0.3, standoff 0, extent -0.254,-8.643 0.305,-8.338
3D body: height 0.64, standoff 0.3, extent 0.089,-8.643 0.914,-8.338
3D body: height 0.3, standoff 0, extent -0.254,-8.143 0.305,-7.838
3D body: height 0.64, standoff 0.3, extent 0.089,-8.143 0.914,-7.838
3D body: height 0.3, standoff 0, extent -0.254,-7.643 0.305,-7.338
3D body: height 0.64, standoff 0.3, extent 0.089,-7.643 0.914,-7.338
3D body: height 0.3, standoff 0, extent -0.254,-7.143 0.305,-6.838
3D body: height 0.64, standoff 0.3, extent 0.089,-7.143 0.914,-6.838
3D body: height 0.3, standoff 0, extent -0.254,-6.643 0.305,-6.338
3D body: height 0.64, standoff 0.3, extent 0.089,-6.643 0.914,-6.338
3D body: height 0.64, standoff 0.3, extent 0.089,-6.143 0.914,-5.838
3D body: height 0.3, standoff 0, extent -0.254,-6.143 0.305,-5.838
3D body: height 0.3, standoff 0, extent -0.254,-11.643 0.305,-11.338
3D body: height 0.64, standoff 0.3, extent 0.089,-11.643 0.914,-11.338
3D body: height 0.3, standoff 0, extent -0.254,-11.143 0.305,-10.838
3D body: height 0.64, standoff 0.3, extent 0.089,-11.143 0.914,-10.838
3D body: height 0.3, standoff 0, extent -0.254,-10.643 0.305,-10.338
3D body: height 0.64, standoff 0.3, extent 0.089,-10.643 0.914,-10.338
3D body: height 0.3, standoff 0, extent -0.254,-10.143 0.305,-9.838
3D body: height 0.64, standoff 0.3, extent 0.089,-10.143 0.914,-9.838
3D body: height 0.3, standoff 0, extent -0.254,-9.643 0.305,-9.338
3D body: height 0.64, standoff 0.3, extent 0.089,-9.643 0.914,-9.338
3D body: height 0.64, standoff 0.3, extent 0.089,-9.143 0.914,-8.838
3D body: height 0.3, standoff 0, extent -0.254,-9.143 0.305,-8.838
3D body: height 0.64, standoff 0.3, extent 0.089,-12.143 0.914,-11.838
3D body: height 0.3, standoff 0, extent -0.254,-12.143 0.305,-11.838
3D body: height 0.3, standoff 0, extent 13.334,-13.738 13.639,-13.179
3D body: height 0.64, standoff 0.3, extent 13.334,-13.395 13.639,-12.57
3D body: height 0.3, standoff 0, extent 10.334,-13.738 10.639,-13.179
3D body: height 0.64, standoff 0.3, extent 10.334,-13.395 10.639,-12.57
3D body: height 0.64, standoff 0.3, extent 10.834,-13.395 11.139,-12.57
3D body: height 0.3, standoff 0, extent 10.834,-13.738 11.139,-13.179
3D body: height 0.64, standoff 0.3, extent 11.334,-13.395 11.639,-12.57
3D body: height 0.3, standoff 0, extent 11.334,-13.738 11.639,-13.179
3D body: height 0.64, standoff 0.3, extent 11.834,-13.395 12.139,-12.57
3D body: height 0.3, standoff 0, extent 11.834,-13.738 12.139,-13.179
3D body: height 0.64, standoff 0.3, extent 12.334,-13.395 12.639,-12.57
3D body: height 0.3, standoff 0, extent 12.334,-13.738 12.639,-13.179
3D body: height 0.64, standoff 0.3, extent 12.834,-13.395 13.139,-12.57
3D body: height 0.3, standoff 0, extent 12.834,-13.738 13.139,-13.179
3D body: height 0.3, standoff 0, extent 7.334,-13.738 7.639,-13.179
3D body: height 0.64, standoff 0.3, extent 7.334,-13.395 7.639,-12.57
3D body: height 0.64, standoff 0.3, extent 7.834,-13.395 8.139,-12.57
3D body: height 0.3, standoff 0, extent 7.834,-13.738 8.139,-13.179
3D body: height 0.64, standoff 0.3, extent 8.334,-13.395 8.639,-12.57
3D body: height 0.3, standoff 0, extent 8.334,-13.738 8.639,-13.179
3D body: height 0.64, standoff 0.3, extent 8.834,-13.395 9.139,-12.57
3D body: height 0.3, standoff 0, extent 8.834,-13.738 9.139,-13.179
3D body: height 0.64, standoff 0.3, extent 9.334,-13.395 9.639,-12.57
3D body: height 0.3, standoff 0, extent 9.334,-13.738 9.639,-13.179
3D body: height 0.64, standoff 0.3, extent 9.834,-13.395 10.139,-12.57
3D body: height 0.3, standoff 0, extent 9.834,-13.738 10.139,-13.179
3D body: height 0.3, standoff 0, extent 4.334,-13.738 4.639,-13.179
3D body: height 0.64, standoff 0.3, extent 4.334,-13.395 4.639,-12.57
3D body: height 0.64, standoff 0.3, extent 4.834,-13.395 5.139,-12.57
3D body: height 0.3, standoff 0, extent 4.834,-13.738 5.139,-13.179
3D body: height 0.64, standoff 0.3, extent 5.334,-13.395 5.639,-12.57
3D body: height 0.3, standoff 0, extent 5.334,-13.738 5.639,-13.179
3D body: height 0.64, standoff 0.3, extent 5.834,-13.395 6.139,-12.57
3D body: height 0.3, standoff 0, extent 5.834,-13.738 6.139,-13.179
3D body: height 0.64, standoff 0.3, extent 6.334,-13.395 6.639,-12.57
3D body: height 0.3, standoff 0, extent 6.334,-13.738 6.639,-13.179
3D body: height 0.64, standoff 0.3, extent 6.834,-13.395 7.139,-12.57
3D body: height 0.3, standoff 0, extent 6.834,-13.738 7.139,-13.179
3D body: height 0.3, standoff 0, extent 3.834,-13.738 4.139,-13.179
3D body: height 0.64, standoff 0.3, extent 3.834,-13.395 4.139,-12.57
3D body: height 0.3, standoff 0, extent 3.334,-13.738 3.639,-13.179
3D body: height 0.64, standoff 0.3, extent 3.334,-13.395 3.639,-12.57
3D body: height 0.3, standoff 0, extent 2.834,-13.738 3.139,-13.179
3D body: height 0.64, standoff 0.3, extent 2.834,-13.395 3.139,-12.57
3D body: height 0.3, standoff 0, extent 2.334,-13.738 2.639,-13.179
3D body: height 0.64, standoff 0.3, extent 2.334,-13.395 2.639,-12.57
3D body: height 0.3, standoff 0, extent 1.834,-13.738 2.139,-13.179
3D body: height 0.64, standoff 0.3, extent 1.834,-13.395 2.139,-12.57
3D body: height 0.64, standoff 0.3, extent 1.334,-13.395 1.639,-12.57
3D body: height 0.3, standoff 0, extent 1.334,-13.738 1.639,-13.179
3D body: height 0.3, standoff 0, extent 14.675,-2.662 15.234,-2.357
3D body: height 0.64, standoff 0.3, extent 14.066,-2.662 14.891,-2.357
3D body: height 0.64, standoff 0.3, extent 14.066,-2.162 14.891,-1.857
3D body: height 0.3, standoff 0, extent 14.675,-2.162 15.234,-1.857
3D body: height 0.64, standoff 0.3, extent 14.066,-1.662 14.891,-1.357
3D body: height 0.3, standoff 0, extent 14.675,-1.662 15.234,-1.357
3D body: height 0.64, standoff 0.3, extent 14.066,-1.162 14.891,-0.857
3D body: height 0.3, standoff 0, extent 14.675,-1.162 15.234,-0.857
3D body: height 0.64, standoff 0.3, extent 14.066,-0.662 14.891,-0.357
3D body: height 0.3, standoff 0, extent 14.675,-0.662 15.234,-0.357
3D body: height 0.64, standoff 0.3, extent 14.066,-0.162 14.891,0.143
3D body: height 0.3, standoff 0, extent 14.675,-0.162 15.234,0.143
3D body: height 0.3, standoff 0, extent 14.675,-5.662 15.234,-5.357
3D body: height 0.64, standoff 0.3, extent 14.066,-5.662 14.891,-5.357
3D body: height 0.64, standoff 0.3, extent 14.066,-5.162 14.891,-4.857
3D body: height 0.3, standoff 0, extent 14.675,-5.162 15.234,-4.857
3D body: height 0.64, standoff 0.3, extent 14.066,-4.662 14.891,-4.357
3D body: height 0.3, standoff 0, extent 14.675,-4.662 15.234,-4.357
3D body: height 0.64, standoff 0.3, extent 14.066,-4.162 14.891,-3.857
3D body: height 0.3, standoff 0, extent 14.675,-4.162 15.234,-3.857
3D body: height 0.64, standoff 0.3, extent 14.066,-3.662 14.891,-3.357
3D body: height 0.3, standoff 0, extent 14.675,-3.662 15.234,-3.357
3D body: height 0.64, standoff 0.3, extent 14.066,-3.162 14.891,-2.857
3D body: height 0.3, standoff 0, extent 14.675,-3.162 15.234,-2.857
3D body: height 0.3, standoff 0, extent 14.675,-8.662 15.234,-8.357
3D body: height 0.64, standoff 0.3, extent 14.066,-8.662 14.891,-8.357
3D body: height 0.64, standoff 0.3, extent 14.066,-8.162 14.891,-7.857
3D body: height 0.3, standoff 0, extent 14.675,-8.162 15.234,-7.857
3D body: height 0.64, standoff 0.3, extent 14.066,-7.662 14.891,-7.357
3D body: height 0.3, standoff 0, extent 14.675,-7.662 15.234,-7.357
3D body: height 0.64, standoff 0.3, extent 14.066,-7.162 14.891,-6.857
3D body: height 0.3, standoff 0, extent 14.675,-7.162 15.234,-6.857
3D body: height 0.64, standoff 0.3, extent 14.066,-6.662 14.891,-6.357
3D body: height 0.3, standoff 0, extent 14.675,-6.662 15.234,-6.357
3D body: height 0.64, standoff 0.3, extent 14.066,-6.162 14.891,-5.857
3D body: height 0.3, standoff 0, extent 14.675,-6.162 15.234,-5.857
3D body: height 0.3, standoff 0, extent 14.675,-11.662 15.234,-11.357
3D body: height 0.64, standoff 0.3, extent 14.066,-11.662 14.891,-11.357
3D body: height 0.64, standoff 0.3, extent 14.066,-11.162 14.891,-10.857
3D body: height 0.3, standoff 0, extent 14.675,-11.162 15.234,-10.857
3D body: height 0.64, standoff 0.3, extent 14.066,-10.662 14.891,-10.357
3D body: height 0.3, standoff 0, extent 14.675,-10.662 15.234,-10.357
3D body: height 0.64, standoff 0.3, extent 14.066,-10.162 14.891,-9.857
3D body: height 0.3, standoff 0, extent 14.675,-10.162 15.234,-9.857
3D body: height 0.64, standoff 0.3, extent 14.066,-9.662 14.891,-9.357
3D body: height 0.3, standoff 0, extent 14.675,-9.662 15.234,-9.357
3D body: height 0.64, standoff 0.3, extent 14.066,-9.162 14.891,-8.857
3D body: height 0.3, standoff 0, extent 14.675,-9.162 15.234,-8.857
3D body: height 0.64, standoff 0.3, extent 14.066,-12.162 14.891,-11.857
3D body: height 0.3, standoff 0, extent 14.675,-12.162 15.234,-11.857
3D body: height 0.3, standoff 0, extent 3.853,1.191 4.158,1.75
3D body: height 0.64, standoff 0.3, extent 3.853,0.582 4.158,1.407
3D body: height 0.64, standoff 0.3, extent 3.353,0.582 3.658,1.407
3D body: height 0.3, standoff 0, extent 3.353,1.191 3.658,1.75
3D body: height 0.64, standoff 0.3, extent 2.853,0.582 3.158,1.407
3D body: height 0.3, standoff 0, extent 2.853,1.191 3.158,1.75
3D body: height 0.64, standoff 0.3, extent 2.353,0.582 2.658,1.407
3D body: height 0.3, standoff 0, extent 2.353,1.191 2.658,1.75
3D body: height 0.64, standoff 0.3, extent 1.853,0.582 2.158,1.407
3D body: height 0.3, standoff 0, extent 1.853,1.191 2.158,1.75
3D body: height 0.64, standoff 0.3, extent 1.353,0.582 1.658,1.407
3D body: height 0.3, standoff 0, extent 1.353,1.191 1.658,1.75
3D body: height 0.3, standoff 0, extent 6.853,1.191 7.158,1.75
3D body: height 0.64, standoff 0.3, extent 6.853,0.582 7.158,1.407
3D body: height 0.64, standoff 0.3, extent 6.353,0.582 6.658,1.407
3D body: height 0.3, standoff 0, extent 6.353,1.191 6.658,1.75
3D body: height 0.64, standoff 0.3, extent 5.853,0.582 6.158,1.407
3D body: height 0.3, standoff 0, extent 5.853,1.191 6.158,1.75
3D body: height 0.64, standoff 0.3, extent 5.353,0.582 5.658,1.407
3D body: height 0.3, standoff 0, extent 5.353,1.191 5.658,1.75
3D body: height 0.64, standoff 0.3, extent 4.853,0.582 5.158,1.407
3D body: height 0.3, standoff 0, extent 4.853,1.191 5.158,1.75
3D body: height 0.64, standoff 0.3, extent 4.353,0.582 4.658,1.407
3D body: height 0.3, standoff 0, extent 4.353,1.191 4.658,1.75
3D body: height 0.3, standoff 0, extent 9.853,1.191 10.158,1.75
3D body: height 0.64, standoff 0.3, extent 9.853,0.582 10.158,1.407
3D body: height 0.64, standoff 0.3, extent 9.353,0.582 9.658,1.407
3D body: height 0.3, standoff 0, extent 9.353,1.191 9.658,1.75
3D body: height 0.64, standoff 0.3, extent 8.853,0.582 9.158,1.407
3D body: height 0.3, standoff 0, extent 8.853,1.191 9.158,1.75
3D body: height 0.64, standoff 0.3, extent 8.353,0.582 8.658,1.407
3D body: height 0.3, standoff 0, extent 8.353,1.191 8.658,1.75
3D body: height 0.64, standoff 0.3, extent 7.853,0.582 8.158,1.407
3D body: height 0.3, standoff 0, extent 7.853,1.191 8.158,1.75
3D body: height 0.64, standoff 0.3, extent 7.353,0.582 7.658,1.407
3D body: height 0.3, standoff 0, extent 7.353,1.191 7.658,1.75
3D body: height 0.3, standoff 0, extent 12.853,1.191 13.158,1.75
3D body: height 0.64, standoff 0.3, extent 12.853,0.582 13.158,1.407
3D body: height 0.64, standoff 0.3, extent 12.353,0.582 12.658,1.407
3D body: height 0.3, standoff 0, extent 12.353,1.191 12.658,1.75
3D body: height 0.64, standoff 0.3, extent 11.853,0.582 12.158,1.407
3D body: height 0.3, standoff 0, extent 11.853,1.191 12.158,1.75
3D body: height 0.64, standoff 0.3, extent 11.353,0.582 11.658,1.407
3D body: height 0.3, standoff 0, extent 11.353,1.191 11.658,1.75
3D body: height 0.64, standoff 0.3, extent 10.853,0.582 11.158,1.407
3D body: height 0.3, standoff 0, extent 10.853,1.191 11.158,1.75
3D body: height 0.64, standoff 0.3, extent 10.353,0.582 10.658,1.407
3D body: height 0.3, standoff 0, extent 10.353,1.191 10.658,1.75
3D body: height 0.64, standoff 0.3, extent 13.353,0.582 13.658,1.407
3D body: height 0.3, standoff 0, extent 13.353,1.191 13.658,1.75